# EAGLE library part TDA7377 (library Audio-Power-amlifier V.2.0)
The TDA7377 is a new technology class AB car radio amplifier able to work either in DUAL BRIDGE or QUAD SINGLE ENDED configuration. The exclusive fully complementary structure of the output stage and the internally fixed gain guarantees the highest possible power performances with extremely reduced component count. The on-board clip detector simplifies gain compression operation. The fault diagnostics makes it possible to detect mistakes during car radio set assembly and wiring in the car
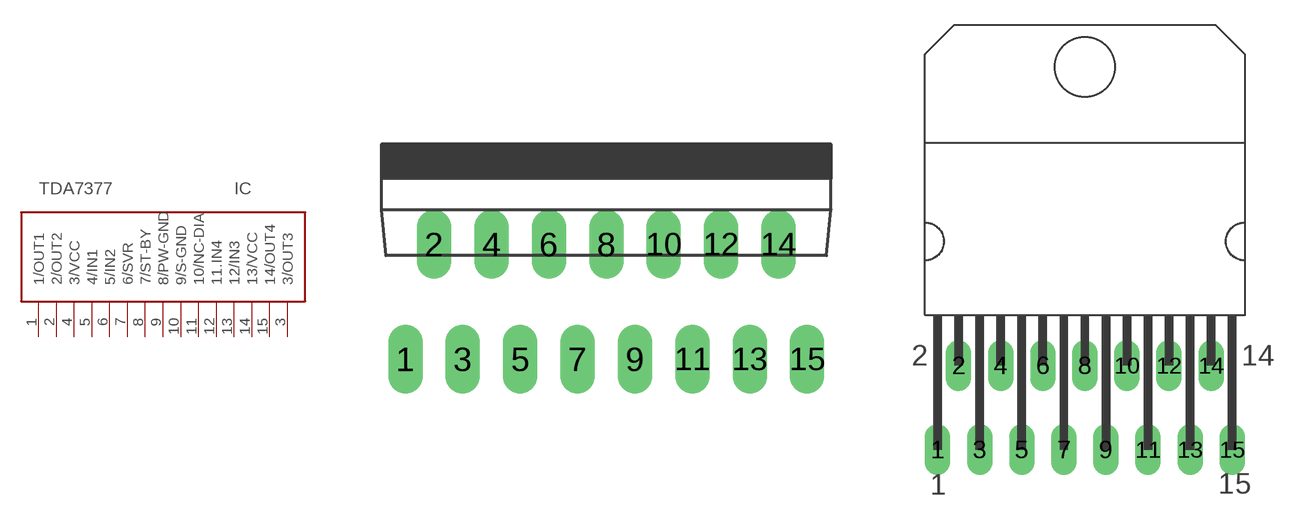
[diagram p129: symbol with the pads of MULTIWATT-15V; footprints MULTIWATT-15V, MULTIWATT-15H]

Designator prefix IC

## TDA7377TDA7377V  [MULTIWATT-15V]
1  1/OUT1  out
2  2/OUT2  out
3  3/OUT3  out
4  3/VCC  pwr
5  4/IN1  in
6  5/IN2  in
7  6/SVR
8  7/ST-BY
9  8/PW-GND  pwr
10  9/S-GND  pwr
11  10/NC-DIA  nc
12  11.IN4  in
13  12/IN3  in
14  13/VCC  pwr
15  14/OUT4  out

## TDA7377TDA7377H  [MULTIWATT-15H]
Pads as for MULTIWATT-15V

## Footprint MULTIWATT-15V (pad centres in mm)
Multiwatt 15 vertical
drill 1.016 long: 1 -8.89,-5.08; 2 -7.62,0; 3 -6.35,-5.08; 4 -5.08,0; 5 -3.81,-5.08; 6 -2.54,0; 7 -1.27,-5.08; 8 0,0; 9 1.27,-5.08; 10 2.54,0; 11 3.81,-5.08; 12 5.08,0; 13 6.35,-5.08; 14 7.62,0; 15 8.89,-5.08

## Footprint MULTIWATT-15H (pad centres in mm)
Multiwatt 15 horizontal
drill 1.016 long: 1 -8.89,-5.08; 2 -7.62,0; 3 -6.35,-5.08; 4 -5.08,0; 5 -3.81,-5.08; 6 -2.54,0; 7 -1.27,-5.08; 8 0,0; 9 1.27,-5.08; 10 2.54,0; 11 3.81,-5.08; 12 5.08,0; 13 6.35,-5.08; 14 7.62,0; 15 8.89,-5.08